# Altium footprint library 0508.PcbLib: 2 footprints
Each footprint in its own frame and in the unit in brackets; x right, y up, seen from the top. Pads: shape width x height; smd on the part's side, far side on the other; paste and mask are expansions set on the pad; w line width, h text height; cw(c..) or ccw(c..) is an arc to the next point about the centre after c.
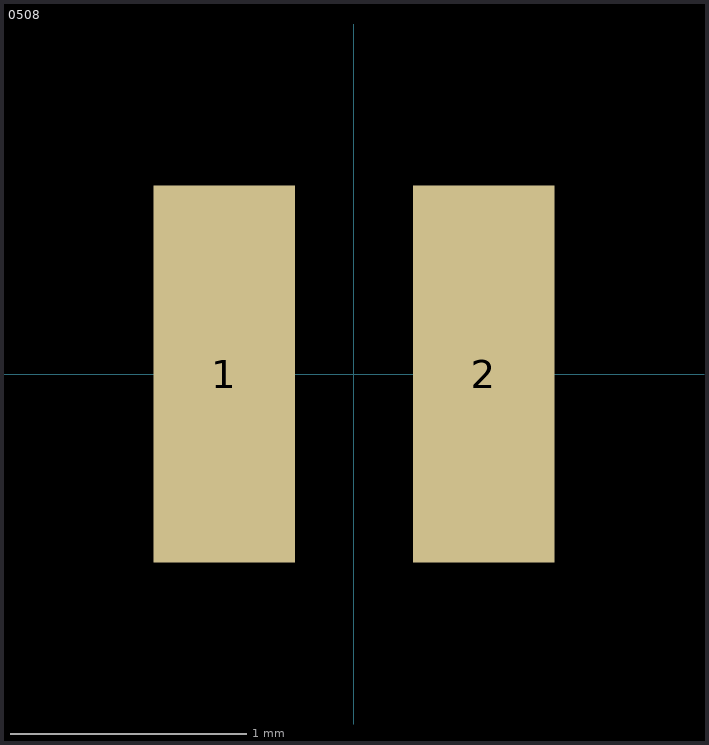
[diagram p0: the footprints below, top view; thin cyan lines are the x and y axes]

## 0508 [mm]
pads (2):
  rect 0.6x1.6 smd: 1(-0.55,0) 2(0.55,0)

## PCBComponent_1 [mm]